# Altium schematic symbol library 350543-1.SchLib: 1 symbol
Pins are listed as number, name and electrical type; pins without a type are passive.

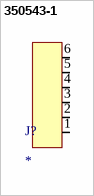
[diagram p0: symbol 350543-1]

## 350543-1
designator J?
MP: 350543-1; MF: {'manufacturer': u'TE Connectivity'}; Package: None; Price: None; Value: *; Availability: Unavailable
footprint TE_350543-1
pins: 1, 2, 3, 4, 5, 6